# Altium footprint library LQ-TC264-SYSVC封装.PcbLib: 1 footprints
Each footprint in its own frame and in the unit in brackets; x right, y up, seen from the top. Pads: shape width x height; smd on the part's side, far side on the other; paste and mask are expansions set on the pad; w line width, h text height; cw(c..) or ccw(c..) is an arc to the next point about the centre after c.
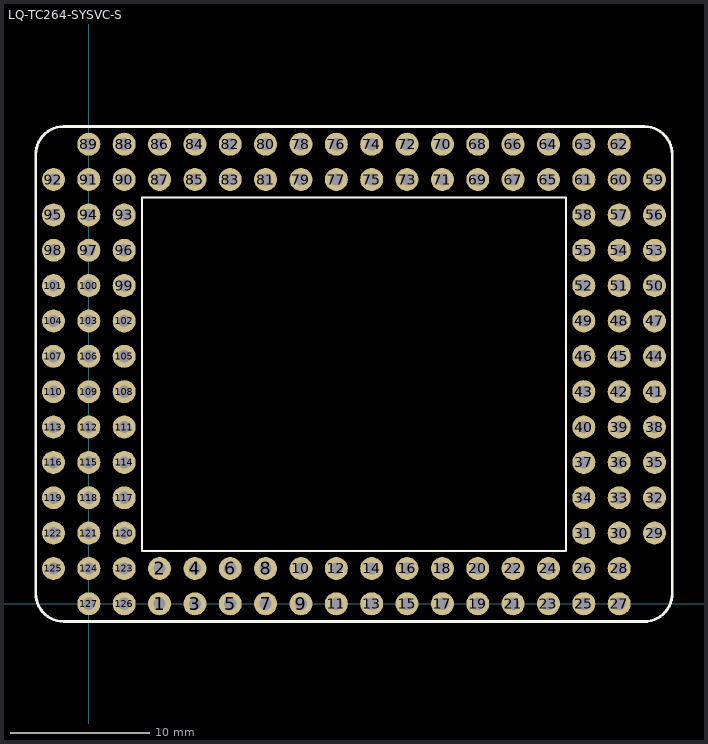
[diagram p0: the footprint, top view; thin cyan lines are the x and y axes]

## LQ-TC264-SYSVC-S [mm] "单片机核心板封装库"
pads (127):
  round 1.65 hole 0.88: 1(5.08,0) 2(5.08,2.54) 3(7.62,0) 4(7.62,2.54) 5(10.16,0) 6(10.16,2.54) 7(12.7,0) 8(12.7,2.54) 9(15.24,0) 10(15.24,2.54) 11(17.78,0) 12(17.78,2.54) 13(20.32,0) 14(20.32,2.54) 15(22.86,0) 16(22.86,2.54) 17(25.4,0) 18(25.4,2.54) 19(27.94,0) 20(27.94,2.54) 21(30.48,0) 22(30.48,2.54) 23(33.02,0) 24(33.02,2.54) 25(35.56,0) 26(35.56,2.54) 27(38.1,0) 28(38.1,2.54) 30(38.1,5.08) 31(35.56,5.08) 33(38.1,7.62) 34(35.56,7.62) 36(38.1,10.16) 37(35.56,10.16) 39(38.1,12.7) 40(35.56,12.7) 42(38.1,15.24) 43(35.56,15.24) 45(38.1,17.78) 46(35.56,17.78) 48(38.1,20.32) 49(35.56,20.32) 51(38.1,22.86) 52(35.56,22.86) 54(38.1,25.4) 55(35.56,25.4) 57(38.1,27.94) 58(35.56,27.94) 60(38.1,30.48) 61(35.56,30.48) 62(38.1,33.02) 63(35.56,33.02) 64(33.02,33.02) 65(33.02,30.48) 66(30.48,33.02) 67(30.48,30.48) 68(27.94,33.02) 69(27.94,30.48) 70(25.4,33.02) 71(25.4,30.48) 72(22.86,33.02) 73(22.86,30.48) 74(20.32,33.02) 75(20.32,30.48) 76(17.78,33.02) 77(17.78,30.48) 78(15.24,33.02) 79(15.24,30.48) 80(12.7,33.02) 81(12.7,30.48) 82(10.16,33.02) 83(10.16,30.48) 84(7.62,33.02) 85(7.62,30.48) 86(5.08,33.02) 87(5.08,30.48) 88(2.54,33.02) 89(0,33.02) 90(2.54,30.48) 91(0,30.48) 93(2.54,27.94) 94(0,27.94) 96(2.54,25.4) 97(0,25.4) 99(2.54,22.86) 100(0,22.86) 102(2.54,20.32) 103(0,20.32) 105(2.54,17.78) 106(0,17.78) 108(2.54,15.24) 109(0,15.24) 111(2.54,12.7) 112(0,12.7) 114(2.54,10.16) 115(0,10.16) 117(2.54,7.62) 118(0,7.62) 120(2.54,5.08) 121(0,5.08) 123(2.54,2.54) 124(0,2.54) 126(2.54,0) 127(0,0)
  round 1.65 hole 0.88 mask+0.102: 29(40.64,5.08) 32(40.64,7.62) 35(40.64,10.16) 38(40.64,12.7) 41(40.64,15.24) 44(40.64,17.78) 47(40.64,20.32) 50(40.64,22.86) 53(40.64,25.4) 56(40.64,27.94) 59(40.64,30.48) 92(-2.54,30.48) 95(-2.54,27.94) 98(-2.54,25.4) 101(-2.54,22.86) 104(-2.54,20.32) 107(-2.54,17.78) 110(-2.54,15.24) 113(-2.54,12.7) 116(-2.54,10.16) 119(-2.54,7.62) 122(-2.54,5.08) 125(-2.54,2.54)
Top Overlay:
  lines w0.15: 3.81,3.8 34.29,3.8 34.29,29.185 3.9,29.185 ; 3.81,3.861 3.81,29.185
  lines w0.2: -3.81,0.596 -3.81,32.29 cw(c-1.81,32.29) -1.81,34.29 39.91,34.29 cw(c39.91,32.29) 41.91,32.29 41.91,0.635 ; -3.81,0.73 ccw(c-1.81,0.73) -1.81,-1.27 40.132,-1.27 ; 39.91,-1.27 ccw(c39.91,0.73) 41.91,0.73